# Altium schematic symbol library OXI_ONE.SchLib: 92 symbols (part 3 of 3)
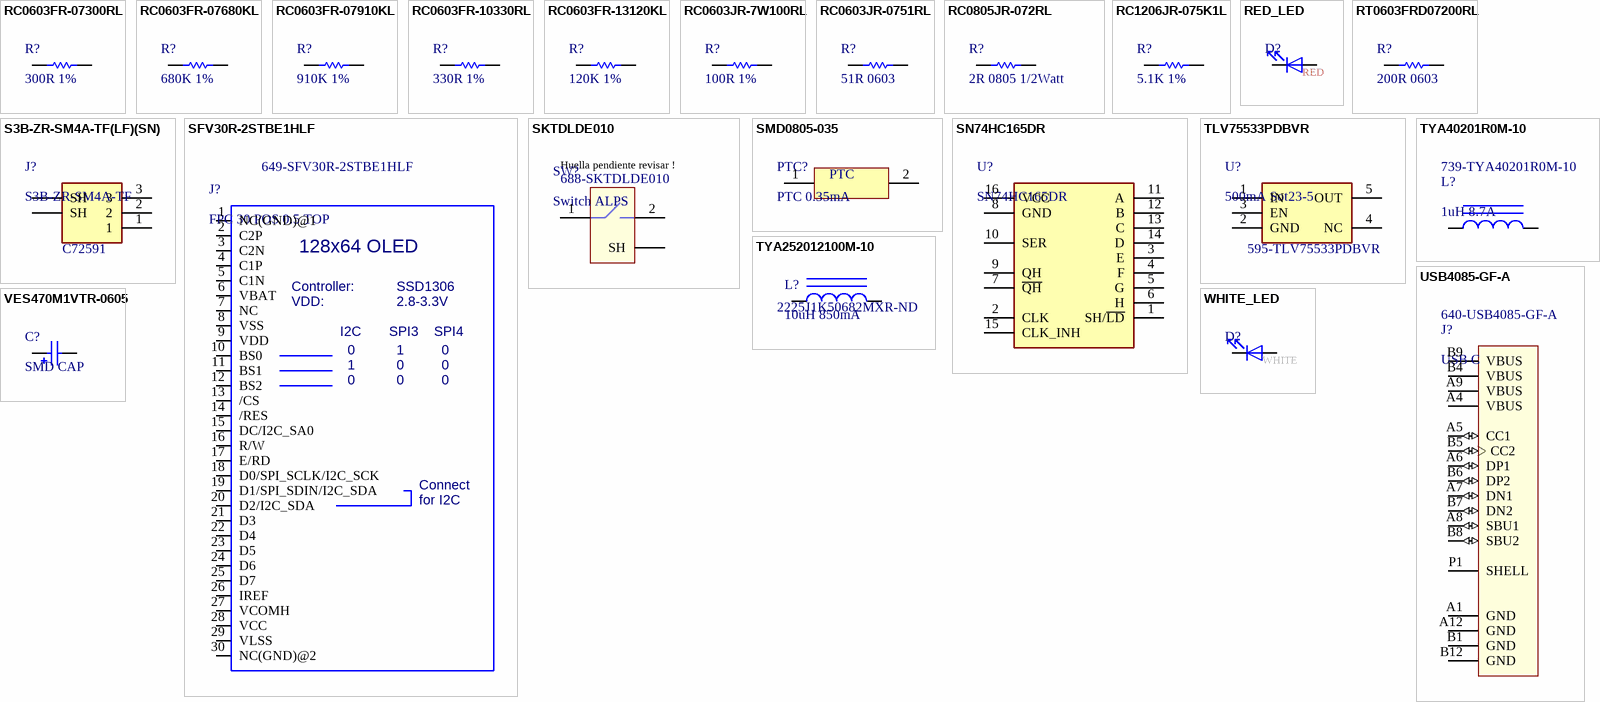
[diagram p4: symbols RC0603FR-07300RL to WHITE_LED]

## S3B-ZR-SM4A-TF(LF)(SN)
designator J?, comment S3B-ZR-SM4A-TF  Supplier Part Number 1: C72591
CONN HEADER SMD R/A 3POS 1.5MM; Manufacturer: JST; Manufacturer Part Number: S3B-ZR-SM4A-TF(LF)(SN); Gender: Male; Current Rating: 1A; Voltage Rating: 50V; Contact Resistance: 30mR; Number of Positions: 3; Connector Type: Male Pin; Supplier 1: LCSC; RoHS: Yes; Category: Connectors; Stock 1: 20684; Pricing 1: 1=0,29910, 10=0,22330, 30=0,20950, 100=0,19560, 500=0,18940, 1000=0,18640, 1=0,28900, 10=0,21580, 30=0,20240, 100=0,18900, 500=0,18300, 1000=0,18010, 1=1,51140, 10=1,12870, 30=1,05870, 100=0,98860, 500=0,95750, 1000=0,94190, 1=1,43500, 10=1,07170, 30=1,00510, 100=0,93860, 500=0,90910, 1000=0,89430, 1=0,19300, 10=0,14410, 30=0,13520, 100=0,12620, 500=0,12230, 1000=0,12030, 1=0,16780, 10=0,12530, 30=0,11750, 100=0,10970, 500=0,10630, 1000=0,10450, 1=1,80840, 10=1,35050, 30=1,26670, 100=1,18280, 500=1,14560, 1000=1,12700, 1=25,23040, 10=18,84160, 30=17,67210, 100=16,50260, 500=15,98290, 1000=15,72300, 1=0,95510, 10=0,71320, 30=0,66900, 100=0,62470, 500=0,60500, 1000=0,59520, 1=17,47090, 10=13,04700, 30=12,23710, 100=11,42730, 500=11,06740, 1000=10,88750, 1=1,95420, 10=1,45930, 30=1,36870, 100=1,27820, 500=1,23790, 1000=1,21780, 1=0,30910, 10=0,23080, 30=0,21650, 100=0,20220, 500=0,19580, 1000=0,19260, 1=0,23300, 10=0,17400, 30=0,16320, 100=0,15240, 500=0,14760, 1000=0,14520 (AUD); Mount: Surface Mount; Housing Color: Beige; Contact Material: Brass,Tin; Color: Natural; Contact Plating: Tin,Copper; Housing Material: Polyamide; Min Operating Temperature: -25°C; Max Operating Temperature: 85°C; Orientation: Right Angle; Number of Rows: 1; Packaging: Tape and Reel; Max Current Rating: 1A; Termination: Solder; Fastening Type: Detent; Number of Contacts: 3; Max Voltage Rating (AC): 50V; Length: 7.5mm; Width: 3.5mm; Height: 7.2mm; Pitch: 1.5mm; Depth: 6.5mm; Lead Free: Lead Free; ComponentLink1URL: https://datasheet.ciiva.com/25618/0900766b81147f94-25618000.pdf?src-supplier=RSComponents; ComponentLink1Description: https://datasheet.ciiva.com/25618/0900766b81147f94-25618000.pdf?src-supplier=RSComponents; ComponentLink2URL: https://datasheet.ciiva.com/26894/getdatasheetpartid-641056-26894618.pdf?src-supplier=Verical; ComponentLink2Description: https://datasheet.ciiva.com/26894/getdatasheetpartid-641056-26894618.pdf?src-supplier=Verical; ComponentLink3URL: https://datasheet.ciiva.com/712/ezh-712545.pdf?src-supplier=Digi-Key; ComponentLink3Description: https://datasheet.ciiva.com/712/ezh-712545.pdf?src-supplier=Digi-Key; ComponentLink4URL: https://datasheet.ciiva.com/712/ezh-712546.pdf?src-supplier=Digi-Key; ComponentLink4Description: https://datasheet.ciiva.com/712/ezh-712546.pdf?src-supplier=Digi-Key; ComponentLink5URL: https://datasheet.ciiva.com/712/ezh-712547.pdf?src-supplier=Digi-Key; ComponentLink5Description: https://datasheet.ciiva.com/712/ezh-712547.pdf?src-supplier=Digi-Key
footprint S3BZRSM4ATFLFSN
pins: 1, 2, 3, SH, SH

## SFV30R-2STBE1HLF
designator J?, comment FPC 30 POS 0.5 TOP  Supplier Part Number 1: 649-SFV30R-2STBE1HLF
Conn FFC/FPC Connector SKT 30 POS 0.5mm Solder RA SMD T/R; Manufacturer: Amphenol ICC / FCI; Manufacturer Part Number: SFV30R-2STBE1HLF; Actuator Material: Glass,Polyphenylene; Number of Contacts: 30; Voltage Rating: 50V; Current Rating: 500mA; Contact Resistance: 30mR; Insulation Resistance: 100MR; Wire/Cable Type: Straight; Supplier 1: Mouser; RoHS: Yes; Category: FFC / FPC; Stock 1: 7549; Pricing 1: 1=0,67000, 10=0,50300, 50=0,50300, 100=0,44000, 1000=0,34600, 10000=0,27800 (USD); Mount: Surface Mount; Contact Material: Bronze; Contact Plating: Gold; Housing Material: Polymer; Min Operating Temperature: -55°C; Max Operating Temperature: 105°C; Termination: Solder; Orientation: Right Angle; Package Quantity: 3000; Packaging: Tape and Reel; Number of Rows: 1; Number of Positions: 30; Contact Location: Top; Max Voltage Rating (AC): 50V; Series: SFV-R; Length: 20.5mm; Pitch: 0.5mm; Depth: 4.9mm; Radiation Hardening: No; Flammability Rating: UL94 V-0; RoHS Compliant: Yes; ComponentLink1URL: https://datasheet.ciiva.com/15247/htmls8-15247568.pdf?src-supplier=Arrow+Europe; ComponentLink1Description: https://datasheet.ciiva.com/15247/htmls8-15247568.pdf?src-supplier=Arrow+Europe
pins: 1 NC(GND)@1, 2 C2P, 3 C2N, 4 C1P, 5 C1N, 6 VBAT, 7 NC, 8 VSS, 9 VDD, 10 BS0, 11 BS1, 12 BS2, 13 /CS, 14 /RES, 15 DC/I2C_SA0, 16 R/W, 17 E/RD, 18 D0/SPI_SCLK/I2C_SCK, 19 D1/SPI_SDIN/I2C_SDA, 20 D2/I2C_SDA, 21 D3, 22 D4, 23 D5, 24 D6, 25 D7, 26 IREF, 27 VCOMH, 28 VCC, 29 VLSS, 30 NC(GND)@2
text: 128x64 OLED; Controller:; SSD1306; VDD:; 2.8-3.3V; I2C; SPI3; SPI4; 0; Connect; for I2C

## SKTDLDE010
designator SW?, comment Switch ALPS  Supplier Part Number 1: 688-SKTDLDE010
Tactile Switches Tact Switch; Manufacturer: Alps Electric; Manufacturer Part Number: SKTDLDE010; Supplier 1: Mouser; RoHS: Yes; Category: Tactile Switches; Stock 1: 5734; RoHS Compliant: Yes; ComponentLink1URL: http://www.alps.com/products/WebObjects/catalog.woa/E/HTML/Tact/SurfaceMount/SKTD/SKTDLDE010.html?src-supplier=Mouser; ComponentLink1Description: http://www.alps.com/products/WebObjects/catalog.woa/E/HTML/Tact/SurfaceMount/SKTD/SKTDLDE010.html?src-supplier=Mouser
footprint SKTDLDE010
pins: 1, 2, SH
text: Huella pendiente revisar !

## SMD0805-035
designator PTC?, comment PTC 0.35mA
6V 350mA 0805 PTC Resettable Fuses RoHS / SMD0805-035; Manufacturer Part Number: SMD0805-035; Supplier 1: LCSC
footprint R 0805/2012
pins: 1, 2
text: PTC

## SN74HC165DR
designator U?
IC 8-BIT SHIFT REGISTER 16-SOIC; Manufacturer: Texas Instruments; Logic Function: Shift Register,OR GATE; Max Supply Voltage: 6V; Min Supply Voltage: 2V; Number of Elements: 1; Operating Supply Voltage: 5V; Propagation Delay: 26ns; Number of Bits: 8; Turn-On Delay Time: 190ns; Direction: Unidirectional; Number of Input Lines: 9; Quiescent Current: 8uA; Supplier 1: Mouser; Manufacturer Part Number: SN74HC165DR; RoHS: Yes; Category: Shift Registers; Mount: Surface Mount; Case/Package: SOIC; Number of Pins: 16; Weight: 0.004998oz; Contact Plating: Gold; Min Operating Temperature: -40°C; Max Operating Temperature: 125°C; Package Quantity: 2500; Packaging: Tape and Reel; Number of Circuits: 1; Number of Bits per Element: 8; Series: 74HC; Technology: CMOS; Number of Output Lines: 1; Length: 9.9mm; Width: 3.91mm; Height: 1.58mm; Radiation Hardening: No; Lead Free: Lead Free; RoHS Compliant: Yes; REACH SVHC: No SVHC; ComponentLink1URL: https://datasheet.ciiva.com/15093/getdatasheetpartid-251161-15093655.pdf?src-supplier=Verical; ComponentLink1Description: https://datasheet.ciiva.com/15093/getdatasheetpartid-251161-15093655.pdf?src-supplier=Verical; ComponentLink2URL: https://datasheet.ciiva.com/34301/915180-34301754.pdf?src-supplier=Jameco; ComponentLink2Description: https://datasheet.ciiva.com/34301/915180-34301754.pdf?src-supplier=Jameco; ComponentLink3URL: https://datasheet.ciiva.com/41456/001016679-da-01-en-ic-8bit-shft-reg-sn74hc165dr-soic-16-tid-41456900.pdf?src-supplier=Conrad; ComponentLink3Description: https://datasheet.ciiva.com/41456/001016679-da-01-en-ic-8bit-shft-reg-sn74hc165dr-soic-16-tid-41456900.pdf?src-supplier=Conrad; ComponentLink4URL: https://datasheet.ciiva.com/1886/sn74hc165-1886212.pdf?src-supplier=Digi-Key; ComponentLink4Description: https://datasheet.ciiva.com/1886/sn74hc165-1886212.pdf?src-supplier=Digi-Key; ComponentLink5URL: https://datasheet.ciiva.com/1886/sn74hc165-1886213.pdf?src-supplier=Digi-Key; ComponentLink5Description: https://datasheet.ciiva.com/1886/sn74hc165-1886213.pdf?src-supplier=Digi-Key; ComponentLink6URL: https://datasheet.ciiva.com/1886/sn74hc165-1886214.pdf?src-supplier=Digi-Key; ComponentLink6Description: https://datasheet.ciiva.com/1886/sn74hc165-1886214.pdf?src-supplier=Digi-Key; ComponentLink7URL: https://datasheet.ciiva.com/46397/1831348-46397223.pdf?src-supplier=Element14; ComponentLink7Description: https://datasheet.ciiva.com/46397/1831348-46397223.pdf?src-supplier=Element14; ComponentLink8URL: https://datasheet.ciiva.com/14295/sn54hc165-14295050.pdf?src-supplier=Avnet; ComponentLink8Description: https://datasheet.ciiva.com/14295/sn54hc165-14295050.pdf?src-supplier=Avnet; ComponentLink9URL: https://datasheet.ciiva.com/26210/sn54hc165-26210138.pdf?src-supplier=Avnet+Europe; ComponentLink9Description: https://datasheet.ciiva.com/26210/sn54hc165-26210138.pdf?src-supplier=Avnet+Europe; ComponentLink10URL: https://datasheet.ciiva.com/14295/sn54hc165-14295052.pdf?src-supplier=Avnet; ComponentLink10Description: https://datasheet.ciiva.com/14295/sn54hc165-14295052.pdf?src-supplier=Avnet; Supplier Part Number 1: 595-SN74HC165DR
footprint SOIC127P600X175-16N
pins: 1 SH/~{LD}, 2 CLK, 3 E, 4 F, 5 G, 6 H, 7 ~{QH}, 8 GND, 9 QH, 10 SER, 11 A, 12 B, 13 C, 14 D, 15 CLK_INH, 16 VCC

## TLV75533PDBVR
designator U?, comment 500mA Sot23-5  Supplier Part Number 1: 595-TLV75533PDBVR
500-mA, high-PSRR, low-IQ, low-dropout voltage regulator with enable 5-SOT-23 -40 to 125; Manufacturer: Texas Instruments; Manufacturer Part Number: TLV75533PDBVR; Output Type: Fixed; Output Configuration: Positive; Number of Regulators: 1; Max Input Voltage: 5.5V; Min Output Voltage: 3.3V; Dropout Voltage: 238mV; Quiescent Current: 31uA; Power Supply Rejection Ratio (PSRR): 52dB; Supplier 1: Mouser; RoHS: Yes; Category: Voltage Regulators - Linear; Pricing 1: 1=0,46000, 10=0,39400, 50=0,39400, 100=0,27300, 1000=0,17900, 10000=0,16200 (USD); Mount: Surface Mount; Case/Package: SOT-23-5; Min Operating Temperature: -40°C; Max Operating Temperature: 125°C; Packaging: Cut Tape; Max Output Voltage: 3.3V; Output Current: 500mA; RoHS Compliant: Yes; ComponentLink1URL: http://www.ti.com/lit/ds/symlink/tlv755p.pdf?src-supplier=Digi-Key; ComponentLink1Description: http://www.ti.com/lit/ds/symlink/tlv755p.pdf?src-supplier=Digi-Key
footprint SOT95P280X145-5N
pins: 1 IN, 2 GND, 3 EN, 4 NC, 5 OUT

## TYA40201R0M-10
designator L?, comment 1uH 8.7A  Supplier Part Number 1: 739-TYA40201R0M-10
Inductores fijos 1uH 8.7A 20% Wire Wound; Manufacturer: Laird; Manufacturer Part Number: TYA40201R0M-10; Supplier 1: Mouser; RoHS: No; Stock 1: 11697
footprint TYA40201R0M10
pins: 1, 2

## TYA252012100M-10
designator L?, comment 10uH 850mA  Supplier Part Number 1: 2225J1K50682MXR-ND
TYA252012 - Low Profile Hight Current SMT Power Inductor; Manufacturer: Laird; Manufacturer Part Number: TYA252012100M-10; Supplier 1: Digi-Key; RoHS: No
footprint TYA252012100M-10
pins: 1, 2

## USB4085-GF-A
designator J?, comment USB C  Supplier Part Number 1: 640-USB4085-GF-A
USB4085 Series 20 V PCB Top Mount USB 2.0 Type C Receptacle; Manufacturer: Global Connector Technology; Manufacturer Part Number: USB4085-GF-A; USB Standard: USB 2.0; Number of Positions: 16; Supplier 1: Mouser; RoHS: Yes; Category: USB Connectors; Contact Material: Copper Alloy; Contact Plating: Gold; Gender: Receptacle; Orientation: Right Angle; ComponentLink1URL: https://datasheet.ciiva.com/71788/2674755-71788146.pdf?src-supplier=Element14; ComponentLink1Description: https://datasheet.ciiva.com/71788/2674755-71788146.pdf?src-supplier=Element14; ComponentLink2URL: https://datasheet.ciiva.com/71788/usb4085-71788147.pdf?src-supplier=Digi-Key; ComponentLink2Description: https://datasheet.ciiva.com/71788/usb4085-71788147.pdf?src-supplier=Digi-Key
footprint GCT_USB4085-GF-A_REVA (USB 2.0 Type C Receptacle Dip Type, PCB Top Mount)
pins: A1 GND (power), A4 VBUS (power), A5 CC1 (io), A6 DP1 (io), A7 DN1 (io), A8 SBU1 (io), A9 VBUS (power), A12 GND (power), B1 GND, B4 VBUS (power), B5 CC2 (io), B6 DP2 (io), B7 DN2 (io), B8 SBU2 (io), B9 VBUS (power), B12 GND (power), P1 SHELL

## VES470M1VTR-0605
designator C?, comment SMD CAP
Capacitadores electrolíticos de aluminio - SMD; Manufacturer Part Number: C285384
footprint CAPAE660X550N
pins: 1 P, 2 N

## WHITE_LED
designator D?, comment WHITE 0603  (value not drawn)
Ice Blue 0603 Light Emitting Diodes (LED) RoHS; Manufacturer Part Number: C397049
footprint LED_0603_1608Metric[White]
pins: 1 K, 2 A
text: WHITE